# EAGLE library part SN74AVC8T245 (library m-pad)
Ti's SN74AVC8T245 8-bit dual supply bus transceiver with configurable voltage transsaltion and 3-state outputs Description: This 8-bit noninverting bus transceiver uses two separate configurable power-supply rails. The SN74AVC8T245 is optimized to operate with VCCA/VCCB set at 1.4 V to 3.6 V. It is operational with VCCA/VCCB as low as 1.2 V. The A port is designed to track VCCA. VCCA accepts any supply voltage from 1.2 V to 3.6 V. The B port is designed to track VCCB. VCCB accepts any supply voltage from 1.2 V to 3.6 V. This allows for universal low-voltage bidirectional translation between any of the 1.2-V, 1.5-V, 1.8-V, 2.5-V, and 3.3-V voltage nodes. The SN74AVC8T245 is designed for asynchronous communication between data buses. The device transmits data from the A bus to the B bus or from the B bus to the A bus, depending on the logic level at the direction-control (DIR) input. The output-enable (OE) input can be used to disable the outputs so the buses are effectively isolated. The SN74AVC8T245 is designed so the control pins (DIR and OE) are supplied by VCCA. The SN74AVC8T245 solution is compatible with a single-supply system and can be replaced later with a '245 function, with minimal printed circuit board redesign. This device is fully specified for partial-power-down applications using Ioff. The Ioff circuitry disables the outputs, preventing damaging current backflow through the device when it is powered down. The VCC isolation feature ensures that if either VCC input is at GND, both ports are in the high-impedance state. To ensure the high-impedance state during power up or power down, OE shall be tied to VCC through a pullup resistor; the minimum value of the resistor is determined by the current-sinking capability of the driver. Features Control Inputs VIH/VIL Levels Are Referenced to VCCA Voltage VCC Isolation Feature. If Either VCC Input Is at GND, All I/O Ports Are in the High-Impedance State Ioff Supports Partial-Power-Down Mode Operation Fully Configurable Dual-Rail Design Allows Each Port to Operate Over the Full 1.4-V to 3.6-V Power-Supply Range I/Os Are 4.6-V Tolerant Max Data Rates: - 170 Mbps (1.2 V (VCCA or VCCB) 3.3 V) - 320 Mbps (1.8 V (VCCA or VCCB) 3.3 V) Latch-Up Performance Exceeds 100 mA Per JESD 78, Class II ESD Protection Exceeds JESD 22 - 8000-V Human-Body Model (A114-A) - 200-V Machine Model (A115-A) - 1000-V Charged-Device Model (C101) Please send any comments to: messi@users.sourceforge.net
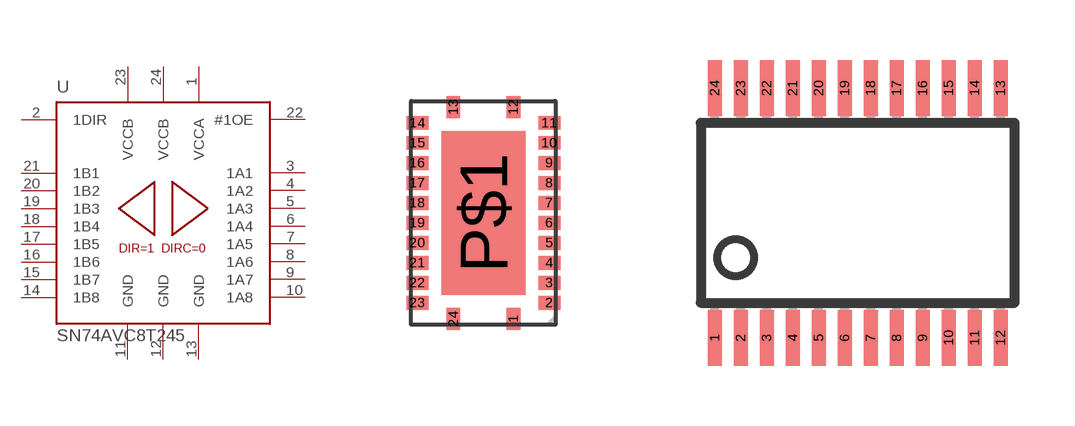
[diagram p117: symbol with the pads of QFN-24; footprints QFN-24, TSSOP-24]

Designator prefix U

## SN74AVC8T245-RHL  [QFN-24]
1  VCCA  pwr
2  1DIR  in
3  1A1
4  1A2
5  1A3
6  1A4
7  1A5
8  1A6
9  1A7
10  1A8
11  GND  pwr
12  GND  pwr
13  GND  pwr
14  1B8
15  1B7
16  1B6
17  1B5
18  1B4
19  1B3
20  1B2
21  1B1
22  #1OE  in
23  VCCB  pwr
24  VCCB  pwr

## SN74AVC8T245-PW  [TSSOP-24]
Pads as for QFN-24

## Footprint QFN-24 (pad centres in mm)
smd 0.35 x 0.55: 1 0.75,-2.65; 12 0.75,2.65; 13 -0.75,2.65; 24 -0.75,-2.65
smd 0.55 x 0.35: 2 1.65,-2.25; 3 1.65,-1.75; 4 1.65,-1.25; 5 1.65,-0.75; 6 1.65,-0.25; 7 1.65,0.25; 8 1.65,0.75; 9 1.65,1.25; 10 1.65,1.75; 11 1.65,2.25; 14 -1.65,2.25; 15 -1.65,1.75; 16 -1.65,1.25; 17 -1.65,0.75; 18 -1.65,0.25; 19 -1.65,-0.25; 20 -1.65,-0.75; 21 -1.65,-1.25; 22 -1.65,-1.75; 23 -1.65,-2.25
smd 2.1 x 4.1: P$1 0,0

## Footprint TSSOP-24 (pad centres in mm)
TSSOP-24 4.5mm body ie. bq24702/3
smd 0.35 x 1.4: 1 -3.725,-3.125; 2 -3.075,-3.125; 3 -2.425,-3.125; 4 -1.775,-3.125; 5 -1.125,-3.125; 6 -0.475,-3.125; 7 0.175,-3.125; 8 0.825,-3.125; 9 1.475,-3.125; 10 2.125,-3.125; 11 2.775,-3.125; 12 3.425,-3.125; 13 3.425,3.125; 14 2.775,3.125; 15 2.125,3.125; 16 1.475,3.125; 17 0.825,3.125; 18 0.175,3.125; 19 -0.475,3.125; 20 -1.125,3.125; 21 -1.775,3.125; 22 -2.425,3.125; 23 -3.075,3.125; 24 -3.725,3.125